# Altium footprint library Xbee3_1W_Customer_pcb_footprint.PcbLib: 1 footprints
Each footprint in its own frame and in the unit in brackets; x right, y up, seen from the top. Pads: shape width x height; smd on the part's side, far side on the other; paste and mask are expansions set on the pad; w line width, h text height; cw(c..) or ccw(c..) is an arc to the next point about the centre after c.
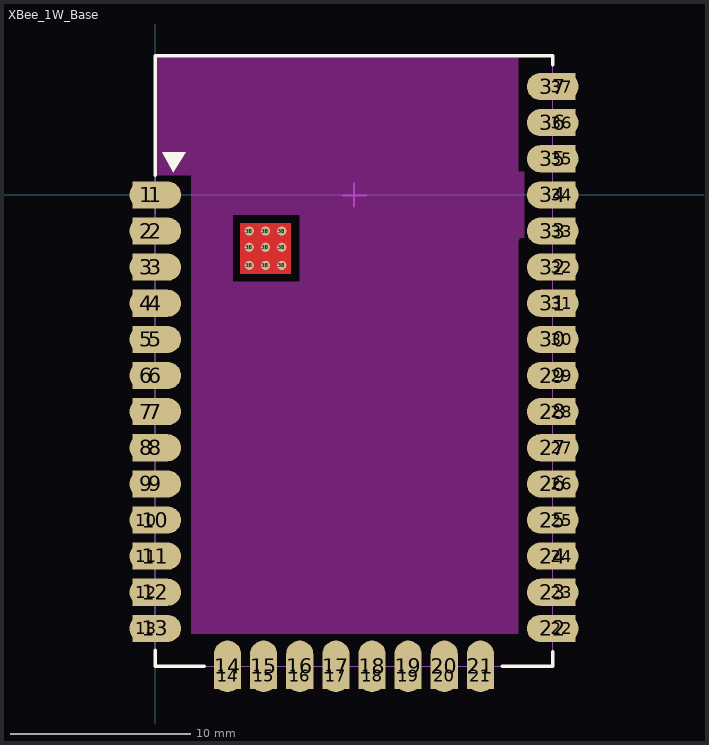
[diagram p0: the footprint, top view; thin cyan lines are the x and y axes]

## XBee_1W_Base [mm]
pads (84):
  rect 1.5x1.5 smd: 1(-0.508,0) 2(-0.508,-2) 3(-0.508,-4) 4(-0.508,-6) 5(-0.508,-8) 6(-0.508,-10) 7(-0.508,-12) 8(-0.508,-14) 9(-0.508,-16) 10(-0.508,-18) 11(-0.508,-20) 12(-0.508,-22) 13(-0.508,-24) 14(3.998,-26.608) 15(5.998,-26.608) 16(7.998,-26.608) 17(9.998,-26.608) 18(11.998,-26.608) 19(13.998,-26.608) 20(15.998,-26.608) 21(17.998,-26.608) 22(22.508,-24) 23(22.508,-22) 24(22.508,-20) 25(22.508,-18) 26(22.508,-16) 27(22.508,-14) 28(22.508,-12) 29(22.508,-10) 30(22.508,-8) 31(22.508,-6) 32(22.508,-4) 33(22.508,-2) 34(22.508,0) 35(22.508,2) 36(22.508,4) 37(22.5,6)
  oval 2.86x1.5 smd: 1(0,0) 2(0,-2) 3(0,-4) 4(0,-6) 5(0,-8) 6(0,-10) 7(0,-12) 8(0,-14) 9(0,-16) 10(0,-18) 11(0,-20) 12(0,-22) 13(0,-24) 22(22,-24) 23(22,-22) 24(22,-20) 25(22,-18) 26(22,-16) 27(22,-14) 28(22,-12) 29(22,-10) 30(22,-8) 31(22,-6) 32(22,-4) 33(22,-2) 34(22,0) 35(22,2) 36(22,4) 37(22,6)
  oval 1.5x2.86 smd: 14(3.998,-26.1) 15(5.998,-26.1) 16(7.998,-26.1) 17(9.998,-26.1) 18(11.998,-26.1) 19(13.998,-26.1) 20(15.998,-26.1) 21(17.998,-26.1)
  round 0.508 hole 0.254: 38(5.2,-3.9) 38(5.2,-2.9) 38(5.2,-2) 38(6.1,-3.9) 38(6.1,-2.9) 38(6.1,-2) 38(7,-3.9) 38(7,-2.9) 38(7,-2)
  round 0.2 smd: 38(6.2,-2.9)
Top Layer:
  region: 4.699,-4.369 7.493,-4.369 7.493,-1.575 4.699,-1.575
Top Layer keep-out:
  region: 2,0 2,-5.6 4.3,-5.6 4.3,0
  region: 0,7.7 20.1,7.7 20.1,-24.3 2,-24.3 2,-4.8 8,-4.8 8,-1.1 2,-1.1 2,1.1 0,1.1
Layer 1 keep-out:
  region: 20.422,1.295 20.422,-2.362 14.122,-2.362 14.097,-2.337 14.122,-2.311 14.122,1.295
Layer 2 keep-out:
  region: 20.091,1.27 20.091,-2.388 13.792,-2.388 13.767,-2.362 13.792,-2.337 13.792,1.27
Top Overlay:
  region: 1.696,2.362 0.396,2.362 0.996,1.262
  lines w0.2: 0,-25.2 0,-26.086 2.7,-26.086 ; 0,1.1 0,7.696 21.996,7.696 21.996,7.2 ; 19.2,-26.086 21.996,-26.086 21.996,-25.3
Top Paste:
  region: 6.351,-4.191 7.239,-4.191 7.239,-3.175 6.351,-3.175
  region: 4.953,-4.191 5.843,-4.191 5.843,-3.175 4.953,-3.175
  region: 6.351,-2.792 7.239,-2.792 7.239,-1.778 6.351,-1.778
  region: 4.953,-2.792 5.843,-2.792 5.843,-1.778 4.953,-1.778
  region: 4.699,-4.369 7.493,-4.369 7.493,-1.575 4.699,-1.575
Top Solder:
  region: 4.699,-4.369 7.493,-4.369 7.493,-1.575 4.699,-1.575
Bottom Solder:
  region: 7.548,-6.286 9.5,-6.286 9.5,-0.521 7.548,-0.521
  region: 2.6,-6.4 9.5,-6.4 9.5,-4.4 4.652,-4.4 4.652,-1.525 7.548,-1.525 7.548,-3.429 9.5,-3.429 9.5,0.4 2.6,0.4
Keep-Out Layer:
  region: 13.496,1.283 13.496,-2.502 20.142,-2.502 20.142,1.283
Mechanical 3:
  lines w0.051: 0,-26.086 21.996,-26.086 21.996,7.696 0,7.696 0,-26.086
  text ".Designator" at 0,1 h0.77
  text "14" at 3.288,-24.692 h1.27
  text "21" at 17.388,-24.692 h1.27
  text "37" at 19,5.3 h1.27
  text "1" at 1.5,-0.725 h1.27
Mechanical 20:
  lines w0.025: 0,-26.086 0,7.696 21.996,7.696 21.996,-26.086 0,-26.086
Mechanical 31:
  lines w0.1: -1,0 1,0 ; 0,-1 0,1 ; 10.389,-0.025 11.659,-0.025 ; 10.998,-0.635 10.998,0.635